# EAGLE library part FASTRAX-UP501 (library m_module)
Fastrax UP501 GPS Receiver Description: The Fastrax UP501 is a GPS receiver module with embedded antenna and tiny form factor 22.0 x 22.0mm x 8mm. The size, mechanics and interface connectivity is an exact match with the Fastrax UP500 [1]. Therefore, customers may replace UP500 with UP501 to gain improved performance with minimal design effort. The Fastrax UP501 receiver provides very fast TTFF together with market leading weak signal acquisition and tracking sensitivity figures. The Fastrax UP501 module supports enhanced navigation accuracy by utilizing WAAS/EGNOS corrections, which may be enabled via NMEA command [2]. The Fastrax UP501 can also utilize 14-days predicted ephemeris data in AGPS applications. The Fastrax UP501 module provides complete signal processing from internal antenna to serial data output in NMEA messages. The module requires a power supply VDD and a backup supply VDD_B voltage for non-volatile RTC & RAM blocks. There is a variant of the module available with on-board backup battery, which will eliminate the need for external backup voltage source. PPS signal output is available for accurate timing applications. The Fastrax UP501 module interfaces to the customer?s application via one serial port, which uses CMOS voltage levels. If RS232 signal levels are required, there is a variant of Fastrax UP501 available with on-board CMOS-to-RS232 level converter. There is also a Dual-SAW filter version of the UP501 available. This module variant is named as Fastrax UP501D. The Dual-SAW filter is targeted for telematic applications where a radio transmitter is placed close to the GPS receiver. The dual filter design will provide higher attenuation outside of the GPS band and it helps to reduce the risk of EMC issues that are sometimes present when high-gain systems (GPS receiver) that are in strong signal field (radio transmitter). For complete electrical compatibility with UP500, there is a high- voltage variant UP501H with 5.5V tolerant VDD supply.
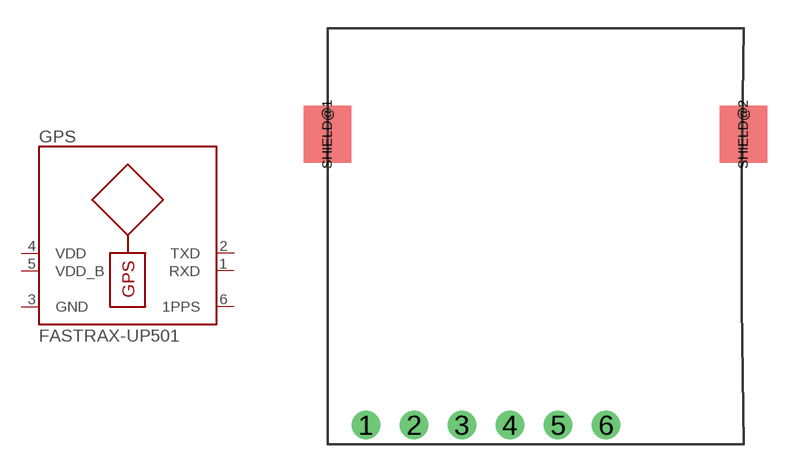
[diagram p4: symbol with the pads of UP501; footprint UP501]

Designator prefix GPS

## FASTRAX-UP501 (MANUF: Fastrax; PARTNUM: UP501)  [UP501]
1  RXD  in
2  TXD  out
3  GND
4  VDD  pwr
5  VDD_B  pwr
6  1PPS  out

## Footprint UP501 (pad centres in mm)
Fastrax UP501 GPS Module
drill 0.991: 1 -9.398,-10.414; 2 -6.858,-10.414; 3 -4.318,-10.414; 4 -1.778,-10.414; 5 0.762,-10.414; 6 3.302,-10.414
smd 2.5 x 3: SHIELD@1 -11.43,4.97; SHIELD@2 10.57,4.97